# Altium schematic symbol library 691 241 710 0xx.SchLib: 11 symbols
Pins are listed as number, name and electrical type; pins without a type are passive.

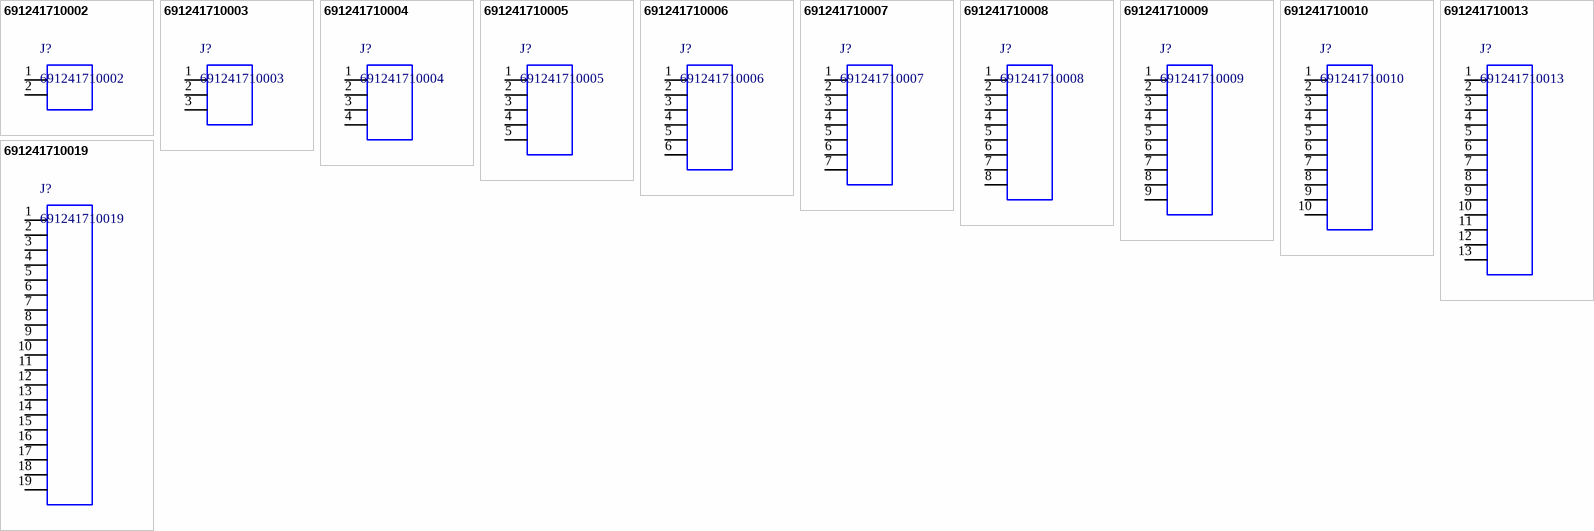
[diagram p0: symbols 691241710002 to 691241710019]

## 691241710002
designator J?
WR-TBL Horizontal Cable Entry With Rising Cage Clamp,Serie 2417 - 5.00 mm; Manufacturer: Wurth Elektronik; ComponentLink1 Description: Manufacturer; ComponentLink2 Description: Datasheet; ComponentLink1URL: http://www.we-online.de; ComponentLink2URL: http://katalog.we-online.de/em/datasheet/6912417100XX.pdf; Created by: Baojun Chen; Created Date: 8.Sep.2015; partNo: 691241710002
footprint 691241710002 (Serie 2417 - 5.00 mm _ 2 pins)
pins: 1, 2

## 691241710003
designator J?
WR-TBL Horizontal Cable Entry With Rising Cage Clamp,Serie 2417 - 5.00 mm; Manufacturer: Wurth Elektronik; ComponentLink1 Description: Manufacturer; ComponentLink2 Description: Datasheet; ComponentLink1URL: http://www.we-online.de; ComponentLink2URL: http://katalog.we-online.de/em/datasheet/6912417100XX.pdf; Created by: Baojun Chen; Created Date: 8.Sep.2015; partNo: 691241710003
footprint 691241710003 (Serie 2417 - 5.00 mm _ 3 pins)
pins: 1, 2, 3

## 691241710004
designator J?
WR-TBL Horizontal Cable Entry With Rising Cage Clamp,Serie 2417 - 5.00 mm; Manufacturer: Wurth Elektronik; ComponentLink1 Description: Manufacturer; ComponentLink2 Description: Datasheet; ComponentLink1URL: http://www.we-online.de; ComponentLink2URL: http://katalog.we-online.de/em/datasheet/6912417100XX.pdf; Created by: Baojun Chen; Created Date: 8.Sep.2015; partNo: 691241710004
footprint 691241710004 (Serie 2417 - 5.00 mm _ 4 pins)
pins: 1, 2, 3, 4

## 691241710005
designator J?
WR-TBL Horizontal Cable Entry With Rising Cage Clamp,Serie 2417 - 5.00 mm; Manufacturer: Wurth Elektronik; ComponentLink1 Description: Manufacturer; ComponentLink2 Description: Datasheet; ComponentLink1URL: http://www.we-online.de; ComponentLink2URL: http://katalog.we-online.de/em/datasheet/6912417100XX.pdf; Created by: Baojun Chen; Created Date: 8.Sep.2015; partNo: 691241710005
footprint 691241710005 (Serie 2417 - 5.00 mm _ 5 pins)
pins: 1, 2, 3, 4, 5

## 691241710006
designator J?
WR-TBL Horizontal Cable Entry With Rising Cage Clamp,Serie 2417 - 5.00 mm; Manufacturer: Wurth Elektronik; ComponentLink1 Description: Manufacturer; ComponentLink2 Description: Datasheet; ComponentLink1URL: http://www.we-online.de; ComponentLink2URL: http://katalog.we-online.de/em/datasheet/6912417100XX.pdf; Created by: Baojun Chen; Created Date: 8.Sep.2015; partNo: 691241710006
footprint 691241710006 (Serie 2417 - 5.00 mm _ 6 pins)
pins: 1, 2, 3, 4, 5, 6

## 691241710007
designator J?
WR-TBL Horizontal Cable Entry With Rising Cage Clamp,Serie 2417 - 5.00 mm; Manufacturer: Wurth Elektronik; ComponentLink1 Description: Manufacturer; ComponentLink2 Description: Datasheet; ComponentLink1URL: http://www.we-online.de; ComponentLink2URL: http://katalog.we-online.de/em/datasheet/6912417100XX.pdf; Created by: Baojun Chen; Created Date: 8.Sep.2015; partNo: 691241710007
footprint 691241710007 (Serie 2417 - 5.00 mm _ 7 pins)
pins: 1, 2, 3, 4, 5, 6, 7

## 691241710008
designator J?
WR-TBL Horizontal Cable Entry With Rising Cage Clamp,Serie 2417 - 5.00 mm; Manufacturer: Wurth Elektronik; ComponentLink1 Description: Manufacturer; ComponentLink2 Description: Datasheet; ComponentLink1URL: http://www.we-online.de; ComponentLink2URL: http://katalog.we-online.de/em/datasheet/6912417100XX.pdf; Created by: Baojun Chen; Created Date: 8.Sep.2015; partNo: 691241710008
footprint 691241710008 (Serie 2417 - 5.00 mm _ 8 pins)
pins: 1, 2, 3, 4, 5, 6, 7, 8

## 691241710009
designator J?
WR-TBL Horizontal Cable Entry With Rising Cage Clamp,Serie 2417 - 5.00 mm; Manufacturer: Wurth Elektronik; ComponentLink1 Description: Manufacturer; ComponentLink2 Description: Datasheet; ComponentLink1URL: http://www.we-online.de; ComponentLink2URL: http://katalog.we-online.de/em/datasheet/6912417100XX.pdf; Created by: Baojun Chen; Created Date: 8.Sep.2015; partNo: 691241710009
footprint 691241710009 (Serie 2417 - 5.00 mm _ 9 pins)
pins: 1, 2, 3, 4, 5, 6, 7, 8, 9

## 691241710010
designator J?
WR-TBL Horizontal Cable Entry With Rising Cage Clamp,Serie 2417 - 5.00 mm; Manufacturer: Wurth Elektronik; ComponentLink1 Description: Manufacturer; ComponentLink2 Description: Datasheet; ComponentLink1URL: http://www.we-online.de; ComponentLink2URL: http://katalog.we-online.de/em/datasheet/6912417100XX.pdf; Created by: Baojun Chen; Created Date: 8.Sep.2015; partNo: 691241710010
footprint 691241710010 (Serie 2417 - 5.00 mm _ 10 pins)
pins: 1, 2, 3, 4, 5, 6, 7, 8, 9, 10

## 691241710013
designator J?
WR-TBL Horizontal Cable Entry With Rising Cage Clamp,Serie 2417 - 5.00 mm; Manufacturer: Wurth Elektronik; ComponentLink1 Description: Manufacturer; ComponentLink2 Description: Datasheet; ComponentLink1URL: http://www.we-online.de; ComponentLink2URL: http://katalog.we-online.de/em/datasheet/6912417100XX.pdf; Created by: Baojun Chen; Created Date: 8.Sep.2015; partNo: 691241710013
footprint 691241710013 (Serie 2417 - 5.00 mm _ 13 pins)
pins: 1, 2, 3, 4, 5, 6, 7, 8, 9, 10, 11, 12, 13

## 691241710019
designator J?
WR-TBL Horizontal Cable Entry With Rising Cage Clamp,Serie 2417 - 5.00 mm; Manufacturer: Wurth Elektronik; ComponentLink1 Description: Manufacturer; ComponentLink2 Description: Datasheet; ComponentLink1URL: http://www.we-online.de; ComponentLink2URL: http://katalog.we-online.de/em/datasheet/6912417100XX.pdf; Created by: Baojun Chen; Created Date: 8.Sep.2015; partNo: 691241710019
footprint 691241710019 (Serie 2417 - 5.00 mm _ 19 pins)
pins: 1, 2, 3, 4, 5, 6, 7, 8, 9, 10, 11, 12, 13, 14, 15, 16, 17, 18, 19